# Altium footprint library MTP10.PcbLib: 1 footprints
Each footprint in its own frame and in the unit in brackets; x right, y up, seen from the top. Pads: shape width x height; smd on the part's side, far side on the other; paste and mask are expansions set on the pad; w line width, h text height; cw(c..) or ccw(c..) is an arc to the next point about the centre after c.
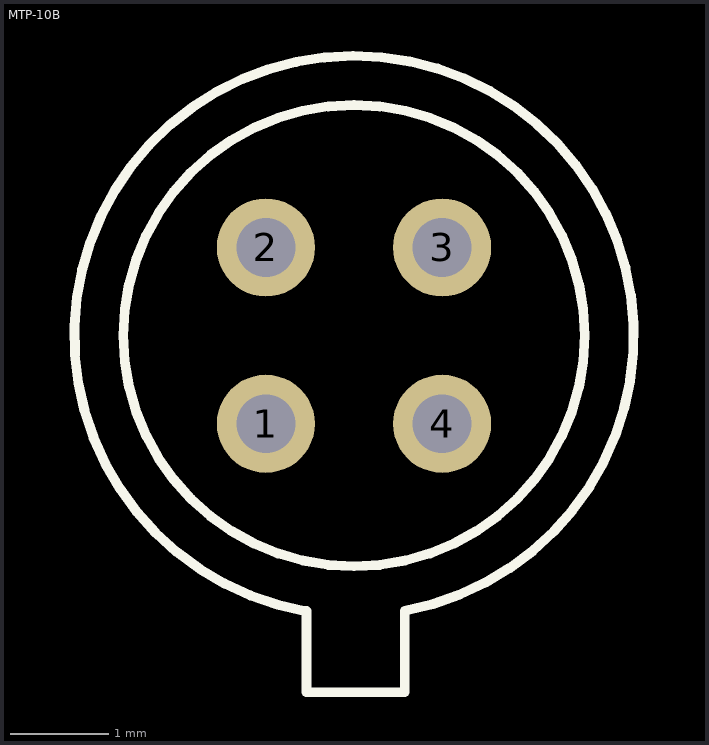
[diagram p0: the footprint, top view; thin cyan lines are the x and y axes]

## MTP-10B [mm]
pads (4):
  round 1 hole 0.6: 1(3.572,6.087) 2(3.572,7.883) 3(5.368,7.883) 4(5.368,6.087)
Top Overlay:
  circle w0.1: c4.47,6.985 r2.35
  lines w0.1: 3.975,4.178 cw(c4.47,6.985) 4.986,4.182 ; 3.988,4.178 3.988,3.353 4.988,3.353 4.988,4.175